# Altium schematic symbol library PulseElectronics.SchLib: 1 symbol
Pins are listed as number, name and electrical type; pins without a type are passive.

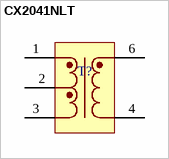
[diagram p0: symbol CX2041NLT]

## CX2041NLT
designator T?  (value not drawn)
=description
pins: 1, 2, 3, 4, 6